# Altium schematic symbol library hand_ad_lib.SchLib: 101 symbols (part 2 of 2)
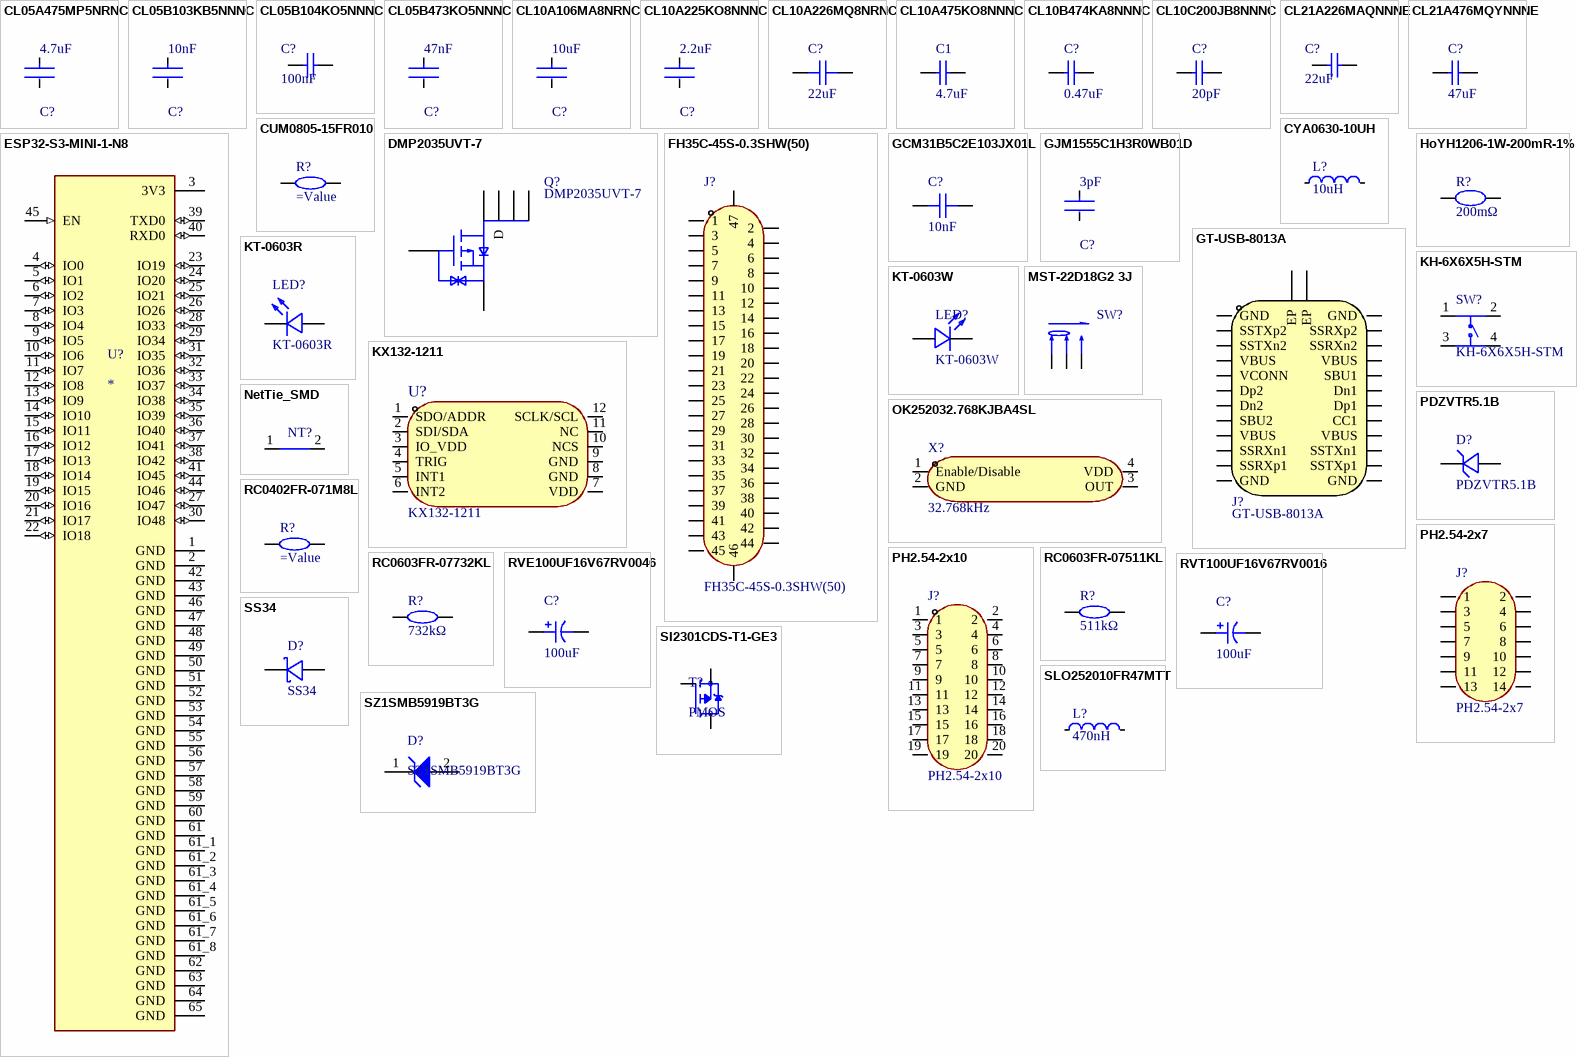
[diagram p3: symbols CL05A475MP5NRNC to SZ1SMB5919BT3G]

## PH2.54-2x7
designator J?
Pin Header 2.54mm, 2x7; Manufacturer: BOOMELE(博穆精密); Symbol: Header-Male-2.54_2x7; Add into BOM: yes; Device: PH2.54-2x7; Supplier: LCSC; Manufacturer Part: PH2.54-2x7; Supplier Part: C71397; JLCPCB Part Class: 扩展库; LCSC Part Name: 间距:2.54mm 直插; Supplier Footprint: 插件,P=2.54mm; Datasheet: https://atta.szlcsc.com/upload/public/pdf/source/20221201/C605E3BE9C0F7226363017EFD1BDE852.pdf; Convert to PCB: yes; Pin Structure: -; Pitch: 2.54mm; Row Spacing: 2.54mm; Circluar Pins/Square Pins: -; Mounting Type: 直插; Number of Rows: 双排; Number of Pins: 14P; Current Rating (Max): -; Voltage Rating (Max): -; Length of Mating Pin: -; Insulation Height: -; Contact Material: -; Contact Plating: -; Color: 黑色; Name: PH2.54-2x7
footprint HDR-TH_14P-P2.54-V-M-R2-C7-S2.54
pins: 1, 2, 3, 4, 5, 6, 7, 8, 9, 10, 11, 12, 13, 14

## PH2.54-2x10
designator J?
Pin Header 2.54mm, 2x10; Manufacturer: ZHOURI(洲日); Add into BOM: yes; Pin Structure: 2x10P; Symbol: PH2.54-2x10; Device: PH2.54-2x10; Supplier: LCSC; Supplier Part: C5116480; Manufacturer Part: PH2.54-2x10; JLCPCB Part Class: Extended Part; LCSC Part Name: PH2.54-2x10; Supplier Footprint: 插件,P=2.54mm; Datasheet: https://atta.szlcsc.com/upload/public/pdf/source/20220412/C6BEA3D643D1CE07163CD717B50927E0.pdf; Convert to PCB: yes; Pitch: 2.54mm; Number of Rows: 双排; Number of Pins: 20P; Name: PH2.54-2x10
footprint HDR-TH_20P-P2.54-V-M-R2-C10-S2.54
pins: 1, 2, 3, 4, 5, 6, 7, 8, 9, 10, 11, 12, 13, 14, 15, 16, 17, 18, 19, 20

## RC0402FR-071M8L
designator R?
SMD Chip Resistor, 1.8 MOhm, ± 1%, 63 mW, 0402 [1005 Metric], Thick Film, General Purpose; Manufacturer: YAGEO(国巨); Symbol: RC0402FR-071M8L; Add into BOM: yes; Value: 1.8MΩ; Power(Watts): 62.5mW; Overload Voltage (Max): 50V; Temperature Coefficient: ±100ppm/℃; Device: RC0402FR-071M8L; LCSC Part Name: 厚膜电阻 1.8MΩ ±1% 62.5mW; Supplier Part: C185447; Manufacturer Part: RC0402FR-071M8L; Supplier Footprint: 0402; JLCPCB Part Class: Extended Part; Datasheet: https://atta.szlcsc.com/upload/public/pdf/source/20180904/C276339_014E484F1DBA106FB92D45EABD5A1AC1.pdf; Supplier: LCSC; Convert to PCB: yes; Type: Thick Film; Tolerance: ±1%; Operating Temperature Range: -55℃~+155℃; Resistance: 1.8MΩ; Name: =Value
footprint R0402
pins: 1, 2

## RC0603FR-07511KL
designator R?, comment 511kΩ
Resistor, Res Thick Film 0402 511k Ohm 1% 0.1W(1/10W) ±100ppm/°C Pad SMD T/R; Manufacturer: YAGEO(国巨); Symbol: RC0603FR-07511KL; Add into BOM: yes; Power(Watts): 100mW; Overload Voltage (Max): 75V; Temperature Coefficient: ±100ppm/℃; Device: RC0603FR-07511KL; LCSC Part Name: 厚膜电阻 511kΩ ±1% 100mW; Supplier Part: C188257; Manufacturer Part: RC0603FR-07511KL; Supplier Footprint: 0603; JLCPCB Part Class: 扩展库; Datasheet: https://atta.szlcsc.com/upload/public/pdf/source/20180316/70C0E2BDAE7FCC62C531A5A58D202EE1.pdf; Supplier: LCSC; Convert to PCB: yes; Type: 厚膜电阻; Value: 511kΩ; Tolerance: ±1%; Operating Temperature Range: -55℃~+155℃; Name: 511kΩ
footprint R0603
pins: 1, 2

## RC0603FR-07732KL
designator R?, comment 732kΩ
RES SMD 732K OHM 1% 1/10W 0603; Manufacturer: YAGEO(国巨); Symbol: RC0603FR-07732KL; Add into BOM: yes; Power(Watts): 100mW; Overload Voltage (Max): 75V; Temperature Coefficient: ±100ppm/℃; Device: RC0603FR-07732KL; LCSC Part Name: 厚膜电阻 732kΩ ±1% 100mW; Supplier Part: C246003; Manufacturer Part: RC0603FR-07732KL; Supplier Footprint: 0603; JLCPCB Part Class: 扩展库; Datasheet: https://atta.szlcsc.com/upload/public/pdf/source/20181031/C326976_E9901E35333D136A19B6CE377E889A82.pdf; Supplier: LCSC; Convert to PCB: yes; Type: 厚膜电阻; Value: 732kΩ; Tolerance: ±1%; Operating Temperature Range: -55℃~+155℃; Name: 732kΩ
footprint R0603
pins: 1, 2

## RVE100UF16V67RV0046
designator C?, comment 100uF
100uF 16V SMD, D6.3xL5.4mm Aluminum Electrolytic Capacitors - SMD ROHS; Manufacturer: KNSCHA(科尼盛); Symbol: RVE100UF16V67RV0046; Add into BOM: yes; Tolerance: ±20%; Ripple Current: 170mA@120Hz; Equivalent Series Resistance(ESR): 850mΩ@100kHz; φD: 6.3mm; L: 5.4mm; Lifetime @ Temp: 2000hrs@105℃; Device: RVE100UF16V67RV0046; Supplier: LCSC; Supplier Part: C2904878; Manufacturer Part: RVE100UF16V67RV0046; Value: 100uF; JLCPCB Part Class: 扩展库; LCSC Part Name: 100uF ±20% 16V; Supplier Footprint: SMD,D6.3xL5.4mm; Datasheet: https://atta.szlcsc.com/upload/public/pdf/source/20211014/E793867481A07AC3B19BA2A562D53862.pdf; Convert to PCB: yes; Rated Voltage: 16V; Operating Temperature: -55℃~+105℃; Name: 100uF
footprint CAP-SMD_BD6.3-L6.6-W6.6-LS7.2-FD
pins: 1, 2

## RVT100UF16V67RV0016
designator C?, comment 100uF
2000hrs@105℃ 100uF 16V SMD, D6.3xL5.4mm Aluminum Electrolytic Capacitors - SMD ROHS; Manufacturer: KNSCHA(科尼盛); Symbol: RVT100UF16V67RV0016; Add into BOM: yes; Tolerance: ±20%; Ripple Current: 93mA@120Hz; φD: 6.3mm; L: 5.4mm; Device: RVT100UF16V67RV0016; Supplier: LCSC; Supplier Part: C2887276; Manufacturer Part: RVT100UF16V67RV0016; Value: 100uF; JLCPCB Part Class: Extended Part; LCSC Part Name: 100uF ±20% 16V; Supplier Footprint: SMD,D6.3xL5.4mm; Datasheet: https://atta.szlcsc.com/upload/public/pdf/source/20210824/B97D2C1FD85DB1F31706138D89C4BE44.pdf; Convert to PCB: yes; Rated Voltage: 16V; Equivalent Series Resistance(ESR): -; Lifetime @ Temp: 2000hrs@105℃; Operating Temperature: -55℃~+105℃; Name: 100uF
footprint CAP-SMD_BD6.3-L6.6-W6.6-LS7.2-FD
pins: 1, 2

## SI2301CDS-T1-GE3
designator T?, comment PMOS
P-Channel 20 V 3.1A (Tc) 860mW (Ta), 1.6W (Tc) Surface Mount SOT-23-3 (TO-236); MF: Vishay; MP: SI2301CDS-T1-GE3; Package: SOT-23-3 Vishay Siliconix; Price: None; Check_prices: https://www.snapeda.com/parts/SI2301CDS-T1-GE3/Vishay+Siliconix/view-part/?ref=eda; Value: *; SnapEDA_Link: https://www.snapeda.com/parts/SI2301CDS-T1-GE3/Vishay+Siliconix/view-part/?ref=snap; Availability: In Stock; Purchase-URL: https://pricing.snapeda.com/search?q=SI2301CDS-T1-GE3&ref=eda
footprint SOT-23
pins: 1 G, 2 S, 3 D

## SLO252010FR47MTT
designator L?, comment 470nH
Inductance: 470nH, Maximum DC Resistance (DCR): 33mΩ, Tolerance: ±20%, Rated Current: 3.6A, Saturation Current: 4.9A.; Manufacturer: Sunltech(韩国顺磁); Symbol: SLO252010FR47MTT; Add into BOM: yes; Device: SLO252010FR47MTT; Supplier: LCSC; Supplier Part: C275664; Manufacturer Part: SLO252010FR47MTT; Value: 470nH; JLCPCB Part Class: 扩展库; LCSC Part Name: 470nH ±20%; Supplier Footprint: 1008; Datasheet: https://atta.szlcsc.com/upload/public/pdf/source/20180827/C275675_14A9C48955D3808CE02CC0CFD834A432.pdf; Convert to PCB: yes; Tolerance: ±20%; Rated Current: 3.6A; DC Resistance (DCR): 33mΩ; Name: 470nH
footprint IND-SMD_L2.5-W2.0_YXMBL252010P
pins: 1, 2

## SS34
designator D?
Rectifier Diode, Schottky, 1 Phase, 1 Element, 3A, 40V V(RRM), Silicon, DO-214AC; Manufacturer: MDD; Symbol: SS34_C8678; Add into BOM: yes; Diode Configuration: 独立式; Forward Voltage (Vf@If): 550mV@3A; Reverse Leakage Current (Ir): 500uA@40V; Device: SS34_C8678; Supplier: LCSC; Manufacturer Part: SS34; Supplier Part: C8678; JLCPCB Part Class: 基础库; LCSC Part Name: 电压:40V 电流:3A; Supplier Footprint: SMA(DO-214AC); Datasheet: https://atta.szlcsc.com/upload/public/pdf/source/20230314/A80AE34493C69B89E2F4B1712F433538.pdf; Convert to PCB: yes; Reverse Voltage (Vr): 40V; Average Rectified Current (Io): 3A; Name: SS34
footprint SMA_L4.3-W2.6-LS5.2-RD
pins: 1 K, 2 A

## SZ1SMB5919BT3G
designator D?
3 W Zener Voltage Regulator, 2-Pin SMB, Pb-Free, Tape and Reel; Manufacturer: On Semiconductor; VZ Typ (V): 5.6; RoHS: Pb-Free; ComponentLink1URL: http://www.onsemi.com/; PackageReference: SMB-2-403A-03_H; ComponentLink2Description: Datasheet; ComponentLink3Description: Package Specification; PackageDescription: 2-Pin Small Molded Package, J-Bend Lead, Body 4.33 x 3.625 mm; DatasheetVersion: Rev. 8; ComponentLink1Description: Manufacturer URL; PartNumber: SZ1SMB5919BT3G; ComponentLink3URL: http://www.onsemi.com/pub_link/Collateral/1SMB5913BT3-D.PDF; Packing: Tape and Reel; Mounting Technology: Surface Mount; ComponentLink2URL: http://www.onsemi.com/pub_link/Collateral/1SMB5913BT3-D.PDF; PackageVersion: Rev. H, 05/2011
footprint ONSC-SMB-2-403A-03_H_V (Molded, 2-Leads, Body 4.6x3.95mm)
pins: 1 K, 2 A

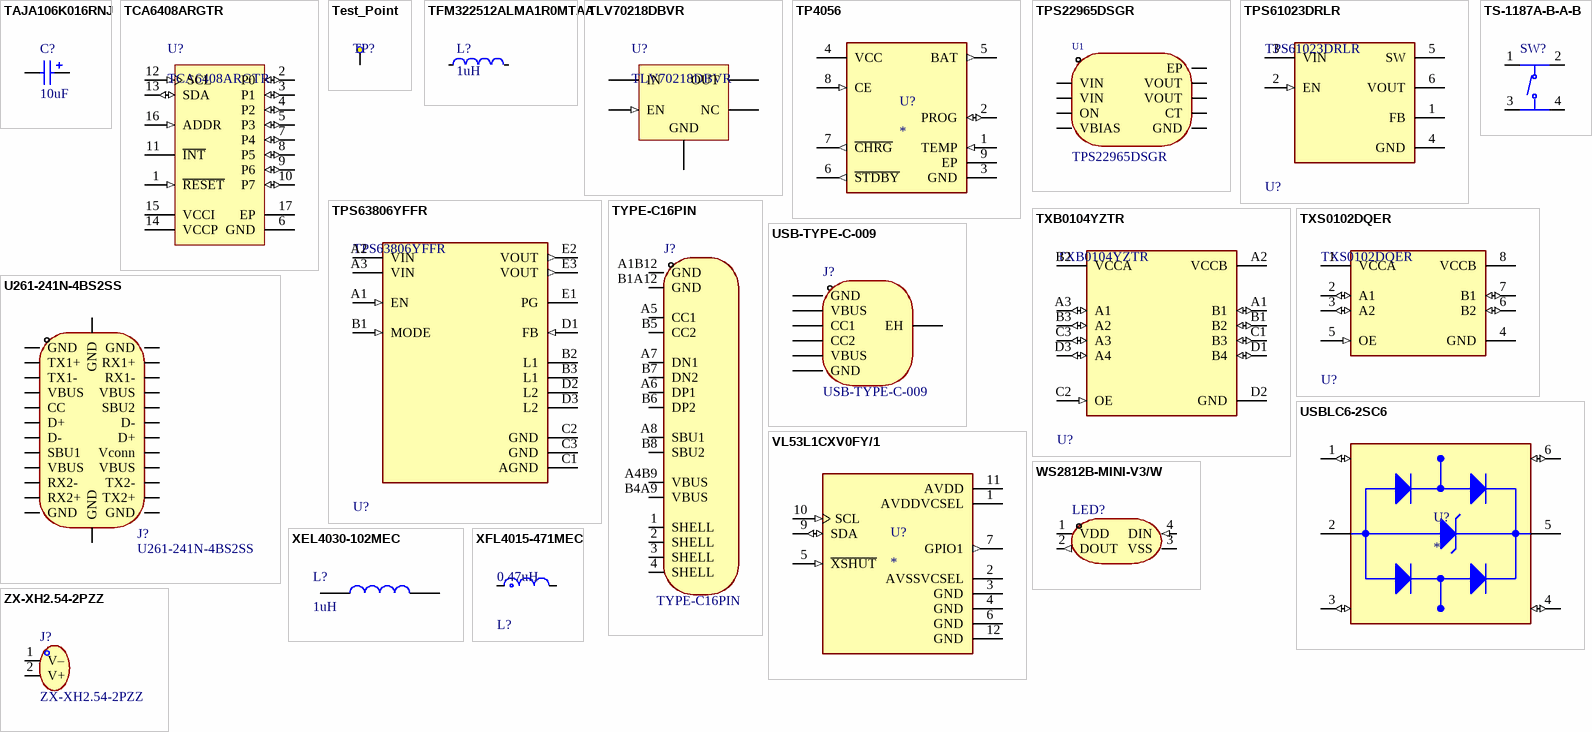
[diagram p2: symbols TAJA106K016RNJ to ZX-XH2.54-2PZZ]

## TAJA106K016RNJ
designator C?, comment 10uF
10 uF Tantalum Capacitor, Operating Temperature: -55°C to +125°C, ESR: 3Ω @ 100kHz, Tolerance: ±10%, Rated Voltage: 16V.; Manufacturer: Kyocera AVX; Symbol: TAJA106K016RNJ; Add into BOM: yes; Rated Voltage: 16V; Device: TAJA106K016RNJ; LCSC Part Name: 10uF ±10% 16V; Supplier Part: C7171; Manufacturer Part: TAJA106K016RNJ; Supplier Footprint: CASE-A-3216; JLCPCB Part Class: 基础库; Datasheet: https://atta.szlcsc.com/upload/public/pdf/source/20160107/1457707750344.pdf; Supplier: LCSC; Convert to PCB: yes; Value: 10uF; Tolerance: ±10%; Equivalent Series Resistance(ESR): 3Ω@100kHz; Operating Temperature: -55℃~+125℃; Name: 10uF
footprint CAP-SMD_L3.2-W1.6-RD-C7171
pins: 1, 2

## TCA6408ARGTR
designator U?
Low-Voltage 8-Bit I2C and SMBus I/O Expander, 1.65 to 5.5 V, -40 to 85 degC, 16-pin QFN (RGT), Green (RoHS & no Sb/Br); Manufacturer: Texas Instruments; Max Frequency(kHz): 400; Low Power: Yes; I2C Address: 0100 00x; # of I/Os: 8; VCC(Max)(V): 5.5; SubFamily: I2C IO Expander; VCC(Min)(V): 1.65; fSCLK(Max)(MHz): 400; ComponentLink2Description: Package Specification; PackageDescription: 16-Pin Plastic Quad Flat No-Lead, 3 x 3 mm Body, 0.5 mm Pitch, 1.45 x 1.45 mm Exposed Pad; Code_JEDEC: MO-220; PackageReference: RGT0016A; Interrupt Output: Yes; PartNumber: TCA6408ARGTR; No. of Outputs: 8; ComponentLink2URL: http://www.ti.com/litv/pdf/mpds361; Push-Pull I/O Type: Yes; Reset Input: Yes; DatasheetVersion: SCPS192C; ComponentLink1Description: Datasheet; Eco-Plan: Green (RoHS & no Sb/Br); 5V Tolerant I/O: Yes; PackageVersion: revH, Oct-2011; Mounting Technology: Surface Mount; Vcc range(V): 1.65 to 5.5; ComponentLink1URL: http://www.ti.com/general/docs/lit/getliterature.tsp?genericPartNumber=TCA6408A&fileType=pdf; Configuration Registers: Yes
footprint RGT0016A_V (QFN, 16-Leads, Body 3x3mm, Pitch 0.5mm, Thermal Pad 1.45x1.45mm)
pins: 1 ~{RESET} (in) "Active-low reset input. Connect to VCC  through a pullup resistor, if no active connection is used.", 2 P0 (io) "P-port input/output. (Push-pull design structure.) At power on, P0 is configured as an input.", 3 P1 (io) "P-port input/output. (Push-pull design structure.) At power on, P1 is configured as an input.", 4 P2 (io) "P-port input/output. (Push-pull design structure.) At power on, P2 is configured as an input.", 5 P3 (io) "P-port input/output. (Push-pull design structure.) At power on, P3 is configured as an input.", 6 GND (power) "Ground", 7 P4 (io) "P-port input/output. (Push-pull design structure.) At power on, P4 is configured as an input.", 8 P5 (io) "P-port input/output. (Push-pull design structure.) At power on, P5 is configured as an input.", 9 P6 (io) "P-port input/output. (Push-pull design structure.) At power on, P6 is configured as an input.", 10 P7 (io) "P-port input/output. (Push-pull design structure.) At power on, P7 is configured as an input.", 11 ~{INT} (oc) "Interrupt output. Connect to VCCI through a pullup resistor.", 12 SCL (in) "Serial clock bus. Connect to VCCI through a pullup resistor.", 13 SDA (io) "Serial data bus. Connect to VCCI through a pullup resistor.", 14 VCCP (power) "Supply voltage of TCA6408A for P port", 15 VCCI (power) "Supply voltage of I2C bus. Connect directly to the VCCI of the external I2C master. Provides voltage leveltranslation", 16 ADDR (in) "Address input. Connect directly to VCCI or ground", 17 EP "Exposed thermal pad"

## Test_Point
designator TP?, comment Test point  (value not drawn)
Value: Test point
footprint Test_Point (Test Point)
pins: TP? Test point

## TFM322512ALMA1R0MTAA
designator L?, comment 1uH
Inductor Power Shielded Thin Film 1uH 20% 1MHz Metal 4A 0.037Ohm DCR 1210 Automotive T/R; Manufacturer: TDK; Symbol: TFM322512ALMA1R0MTAA; Add into BOM: yes; Device: TFM322512ALMA1R0MTAA; LCSC Part Name: 1uH ±20%; Supplier Part: C5289686; Manufacturer Part: TFM322512ALMA1R0MTAA; Supplier Footprint: SMD,3.2x2.5mm; JLCPCB Part Class: 扩展库; Datasheet: https://atta.szlcsc.com/upload/public/pdf/source/20211126/E72FBF4739559F3406CBBE217E68C1F7.pdf; Supplier: LCSC; Convert to PCB: yes; Value: 1uH; Tolerance: ±20%; Name: 1uH
footprint IND-SMD_L3.2-W2.5_TDK_TFM322512ALVA
pins: 1, 2

## TLV70218DBVR
designator U?
300-mA, high-PSRR, low-IQ, low-dropout voltage regulator with enable 5-SOT-23 -40 to 125; Quiescent Current: 30uA; Accuracy: 2%; Dropout Voltage: 260mV; Output Voltage Accuracy: 0.5%; Max Input Voltage: 5.5V; Max Output Current: 300mA; Power Dissipation: 500mW; Number of Regulators: 1; Min Output Voltage: 1.8V; Min Input Voltage: 2V; Min Current Limit: 320mA; Polarity: Positive; Output Type: Fixed; Package Quantity: 3000; Packaging: Tape and Reel; Contact Plating: Gold; RoHS Compliant: Yes; Min Operating Temperature: -40°C; Number of Outputs: 1; REACH SVHC: No SVHC; Lead Free: Lead Free; Max Operating Temperature: 125°C; Series: -; Case/Package: SOT-23-5; Radiation Hardening: No; Nominal Output Voltage: 1.8V; Number of Pins: 5; Max Output Voltage: 1.8V; Output Current: 300mA; Max Power Dissipation: 500mW; Output Voltage: 1.8V
footprint DBV0005A_M (SOT23, 5-Leads, Body 3.05x1.75mm, Pitch 0.95mm, IPC Low Density)
footprint DBV0005A_L (SOT23, 5-Leads, Body 3.05x1.75mm, Pitch 0.95mm, IPC High Density)
footprint DBV0005A_N (SOT23, 5-Leads, Body 3.05x1.75mm, Pitch 0.95mm, IPC Medium Density)
pins: 1 IN (power) "Input supply voltage", 2 GND (power) "Ground", 3 EN (in) "Enable input", 4 NC "No connected", 5 OUT (power) "Regulated output voltage"

## TP4056
designator U?
Complete single cell Li-Ion battery with a constant current / constant voltage linear charger; MF: NanJing Top Power ASIC Corp.; MP: TP4056; Check_prices: https://www.snapeda.com/parts/TP4056/NanJing+Top+Power+ASIC+Corp./view-part/?ref=eda; SnapEDA_Link: https://www.snapeda.com/parts/TP4056/NanJing+Top+Power+ASIC+Corp./view-part/?ref=snap; Price: None; Availability: Not in stock; Package: Package; Value: *
footprint SOP127P600X175-9N
pins: 1 TEMP (in), 2 PROG (io), 3 GND (power), 4 VCC (power), 5 BAT (out), 6 ~{STDBY} (out), 7 ~{CHRG} (out), 8 CE (in), 9 EP

## TPS22965DSGR
designator U1
Tape & Reel (TR) TPS22965 e4 On/Off power distribution switch 2mm 2.5V 2.2ms 6A; Manufacturer: TI(德州仪器); Add into BOM: yes; Symbol: TPS22965DSGR; Device: TPS22965DSGR; Supplier: LCSC; Manufacturer Part: TPS22965DSGR; Supplier Part: C122837; JLCPCB Part Class: 扩展库; LCSC Part Name: TPS22965DSGR; Supplier Footprint: UDFN-8-EP(2x2); Datasheet: https://www.ti.com/cn/lit/gpn/tps22965; Convert to PCB: yes; Name: TPS22965DSGR
footprint UDFN-8_L2.0-W2.0-P0.50-TL-EP
pins: 1 VIN, 2 VIN, 3 ON, 4 VBIAS, 5 GND, 6 CT, 7 VOUT, 8 VOUT, 9 EP

## TPS61023DRLR
designator U?
3.7-A boost converter with 0.5-V ultra-low input voltage 6-SOT-5X3 -40 to 125
footprint FP-DRL0006A-MFG
pins: 1 FB, 2 EN (in), 3 VIN (power), 4 GND (power), 5 SW, 6 VOUT (power)

## TPS63806YFFR
designator U?
Low IQ Buck-Boost Converter with Small Solution Size 2A 1.3V to 5.5V 15-Pin DSBGA
footprint FP-YFF0015-MFG
footprint FP-YFF0015-IPC_A
footprint FP-YFF0015-IPC_B
footprint FP-YFF0015-IPC_C
pins: A1 EN (in), A2 VIN (power), A3 VIN (power), B1 MODE (in), B2 L1, B3 L1, C1 AGND (power), C2 GND (power), C3 GND (power), D1 FB (in), D2 L2, D3 L2, E1 PG (oc), E2 VOUT (out), E3 VOUT (out)

## TS-1187A-B-A-B
designator SW?  (value not drawn)
Touch Button; Manufacturer: XKB Connectivity(中国星坤); Add into BOM: yes; Circuit: 单刀单掷; Actuator Style: 圆形按钮; Operating Force: 160gf; Switch Length: 5.1mm; Switch Height: 1.5mm; Strike Gundam: 不带; Contact Current: 50mA; Voltage Rating (DC): 12V; Actuator/Cap Color: 金色; With Lamp: 无; Mechanical Life: 10万次; Symbol: TS-1187A-B-A-B; Device: TS-1187A-B-A-B; Supplier: LCSC; Supplier Part: C318884; Manufacturer Part: TS-1187A-B-A-B; JLCPCB Part Class: 基础库; LCSC Part Name: 5.1*5.1*1.5mm 立贴 轻触开关; Supplier Footprint: SMD; Datasheet: https://atta.szlcsc.com/upload/public/pdf/source/20200227/C318890_053E50208A88A7BA1965D8746000774E.pdf; Convert to PCB: yes; Mounting Style: 立贴; Switch Width: 5.1mm; Insulation Resistance: -; Operating Temperature: -30℃~+85℃; Name: TS-1187A-B-A-B
footprint SW-SMD_4P-L5.1-W5.1-P3.70-LS6.5-TL-2
pins: 1 A, 2 B, 3 C, 4 D

## TXB0104YZTR
designator U?
I2C Level Shifter 4 channel, IC TRNSLTR BIDIRECTIONAL 12DSBGA; Output Type: 3-STATE; High Level Output Current: -20uA; Low Level Output Current: 20uA; Max Supply Voltage: 5.5V; Number of Bits: 4; Min Supply Voltage: 1.2V; Logic Function: Translator; Propagation Delay: 31ns; Data Rate: 100Mbps; Quiescent Current: 3.5uA; Turn-On Delay Time: 7.4ns; Series: -; Contact Plating: Copper; Packaging: Tape and Reel; Case/Package: BGA; Min Operating Temperature: -40°C; Package Quantity: 1; Max Operating Temperature: 85°C; RoHS Compliant: Yes; Radiation Hardening: No; Mount: Surface Mount; REACH SVHC: No SVHC; Number of Channels: 4; Lead Free: Lead Free; Number of Pins: 12
footprint FP-YZT0012-IPC_B
footprint FP-YZT0012-IPC_A
footprint FP-YZT0012-IPC_C
pins: A1 B1 (io), A2 VCCB (power), A3 A1 (io), B1 B2 (io), B2 VCCA (power), B3 A2 (io), C1 B3 (io), C2 OE (in), C3 A3 (io), D1 B4 (io), D2 GND (power), D3 A4 (io)

## TXS0102DQER
designator U?
2-Bit Bidirectional Voltage-Level Shifter for Open-Drain and Push-Pull Application 8-X2SON -40 to 85; Manufacturer: Texas Instruments; Min Supply Voltage: 1.65V; Number Of Outputs: 2; Propagation Delay: 28ns; Number Of Circuits: 1; V A Min: 1.25V; V A Max: 3.6V; Standoff Height: 0mm; V B Min: 2.3V; Max Supply Voltage: 5.5V; Max Junction Temp: +150°C; Logic Function Desc: Non-Inverting; Data Rate: 24Mbits/s; Nominal Supply Current: 14.4uA; Device Class L1: Integrated Circuits (ICs); Temperature Range Low: -40°C; Ipc Land Pattern Name: DFN140X100X37-8; RoHS: TRUE; Package: DQE0008A; Automotive: No; Digikey Description: IC TRNSLTR BIDIRECTIONAL 8X2SON; Device Class L3: Voltage Level Shifters; Octopart: https://octopart.com/txs0102dqer-texas+instruments-19973770; ComponentLink2URL: http://www.ti.com/lit/ds/symlink/txs0102.pdf; Number Of Inputs: 2; Height: 0.4mm; ComponentLink2Description: Datasheet; Ambient Temperature Range Low: -40°C; Ambient Temperature Range High: +85°C; Temperature Range High: +85°C; Mouser Description: Translation - Voltage Levels 2B Bidirec Vltg-Lev Translator; Temperature: -40°C to +85°C; Lead Free: Yes; Device Class L2: Logic ICs; Category: IC; Manufacturer Part Number: TXS0102DQER; V B Max: 5.5V
footprint FP-DQE0008A-IPC_C
footprint FP-DQE0008A-MFG
footprint FP-DQE0008A-IPC_B
footprint FP-DQE0008A-IPC_A
pins: 1 VCCA (power), 2 A1 (io), 3 A2 (io), 4 GND (power), 5 OE (in), 6 B2 (io), 7 B1 (io), 8 VCCB (power)

## TYPE-C16PIN
designator J?
USB Type-C 16 pins connector; Manufacturer: SHOU HAN(首韩); Add into BOM: yes; Gender: 母; Number of Ports: 1; Number of Contacts: 16P; Current Rating - Power (Max): 3A; Symbol: TYPE-C16PIN; Device: TYPE-C16PIN; Supplier: LCSC; Supplier Part: C393939; Manufacturer Part: TYPE-C16PIN; JLCPCB Part Class: Extended Part; LCSC Part Name: Type-C 母 卧贴; Supplier Footprint: SMD; Datasheet: https://atta.szlcsc.com/upload/public/pdf/source/20190521/C393939_7B9043D4CF1026AF443AB60D91FBCD5C.pdf; Convert to PCB: yes; Connector Type: Type-C; Standard: -; Mounting Style: 卧贴; Operating Temperature Range: -40℃~+85℃; Name: TYPE-C16PIN
footprint USB-C-SMD_TYPE-C16PIN
pins: 1 SHELL, 2 SHELL, 3 SHELL, 4 SHELL, A1B12 GND (power), A4B9 VBUS, A5 CC1, A6 DP1 (io), A7 DN1 (io), A8 SBU1, B1A12 GND (power), B4A9 VBUS, B5 CC2, B6 DP2 (io), B7 DN2 (io), B8 SBU2

## U261-241N-4BS2SS
designator J?
Type-C male connector, board mount, temperature range -40°C to +85°C, USB 3.1, high conductivity copper, contact plating: gold, 24 pins, 5A.; Manufacturer: XKB Connectivity(中国星坤); Add into BOM: yes; Gender: 公; Number of Ports: 1; Number of Contacts: 24P; Current Rating - Power (Max): 5A; Soldering Temperature(Max): 260℃; Symbol: U261-241N-4BS2SS; Device: U261-241N-4BS2SS; LCSC Part Name: Type-C 公 沉板; Supplier Part: C2938596; Manufacturer Part: U261-241N-4BS2SS; Supplier Footprint: SMD; JLCPCB Part Class: 扩展库; Datasheet: https://atta.szlcsc.com/upload/public/pdf/source/20211229/8816670D37F7BADECA999C720C1B1E92.pdf; Supplier: LCSC; Convert to PCB: yes; Connector Type: Type-C; Standard: USB 3.1; Mounting Style: 沉板; Contact Material: 高导铜; Contact Plating: 金; Operating Temperature Range: -40℃~+85℃; Name: U261-241N-4BS2SS
footprint USB-C-SMD_U261-241N-4BS2SS
pins: 25 GND, 26 GND, A1 GND, A2 TX1+, A3 TX1-, A4 VBUS, A5 CC, A6 D+, A7 D-, A8 SBU1, A9 VBUS, A10 RX2-, A11 RX2+, A12 GND, B1 GND, B2 TX2+, B3 TX2-, B4 VBUS, B5 Vconn, B6 D+, B7 D-, B8 SBU2, B9 VBUS, B10 RX1-, B11 RX1+, B12 GND

## USB-TYPE-C-009
designator J?
Female 6 pin type-C connector; Manufacturer: DEALON(德艺隆); Add into BOM: yes; Gender: 母; Number of Ports: 1; Number of Contacts: 6P; Current Rating - Power (Max): 5A; Symbol: USB-TYPE-C-009; Device: USB-TYPE-C-009; LCSC Part Name: Type-C 母 卧贴; Supplier Part: C2927029; Manufacturer Part: USB-TYPE-C-009; Supplier Footprint: SMD; JLCPCB Part Class: 扩展库; Datasheet: https://atta.szlcsc.com/upload/public/pdf/source/20211217/1285E39CB33F6A7DB557CB6D0A3C6F17.pdf; Supplier: LCSC; Convert to PCB: yes; Connector Type: Type-C; Standard: -; Mounting Style: 卧贴; Operating Temperature Range: -25℃~+85℃; Name: USB-TYPE-C-009
footprint TYPE-C-SMD_TYPE-C-6P
pins: 7 EH, A5 CC1, A9 VBUS, A12 GND, B5 CC2, B9 VBUS, B12 GND

## USBLC6-2SC6
designator U?
17V Clamp 5A (8/20Âµs) Ipp Tvs Diode Surface Mount SOT-23-6; MF: STMicroelectronics; MP: USBLC6-2SC6; Value: *; SnapEDA_Link: https://www.snapeda.com/parts/USBLC6-2SC6/STMicroelectronics/view-part/?ref=snap; Check_prices: https://www.snapeda.com/parts/USBLC6-2SC6/STMicroelectronics/view-part/?ref=eda; Purchase-URL: https://pricing.snapeda.com/search/part/USBLC6-2SC6/?ref=eda; Price: None; Availability: In Stock; Package: SOT-23-6 STMicroelectronics
footprint SOT95P280X145-6N
pins: 1 I/O1_IN (io), 2 GND (power), 3 I/O2_IN (io), 4 I/O2_OUT (io), 5 VBUS (power), 6 I/O1_OUT (io)

## VL53L1CXV0FY/1
designator U?
Optical Sensor 157.480 (4m) I2C Output; MP: VL53L1CXV0FY/1; MF: STMicroelectronics; SnapEDA_Link: https://www.snapeda.com/parts/VL53L1CXV0FY/1/STMicroelectronics/view-part/?ref=snap; Package: LGA-12 STMicroelectronics; Check_prices: https://www.snapeda.com/parts/VL53L1CXV0FY/1/STMicroelectronics/view-part/?ref=eda; Purchase-URL: https://pricing.snapeda.com/search/part/VL53L1CXV0FY/1/?ref=eda; Price: None; Value: *; Availability: In Stock
footprint SENSOR_VL53L1CXV0FY/1
pins: 1 AVDDVCSEL (power), 2 AVSSVCSEL (power), 3 GND (power), 4 GND (power), 5 ~{XSHUT} (in), 6 GND (power), 7 GPIO1 (out), 9 SDA (io), 10 SCL (in), 11 AVDD (power), 12 GND (power)

## WS2812B-MINI-V3/W
designator LED?  (value not drawn)
Main wavelength: 472nm, Main wavelength: 518nm, Main wavelength: 622nm, Emission color: RGB (Red, Green, Blue), Forward voltage (VF): 5V, Forward current: 12mA; Manufacturer: worldsemi; Add into BOM: yes; Emitted Color: RGB三色; Dominant Wavelength: 472nm；518nm；622nm; Symbol: WS2812B-MINI; Device: WS2812B-MINI-V3/W; LCSC Part Name: RGB三色; Supplier Part: C527089; Manufacturer Part: WS2812B-MINI-V3/W; Supplier Footprint: SMD3535; JLCPCB Part Class: 扩展库; Datasheet: https://atta.szlcsc.com/upload/public/pdf/source/20190620/C114583_ECCAEB884D1CBA01F5696FFC90F90D84.pdf; Supplier: LCSC; Convert to PCB: yes; Power Dissipation: -; Forward Current: 12mA; Peak Wavelength: -; Diode Configuration: -; Lens Color: -; Color Temperature: -; Viewing Angle: -; Mounting Sytle: -; Operating Temperature: -; Name: WS2812B-MINI-V3/W
footprint LED-SMD_4P-L3.5-W3.5-TL_WS2812B
pins: 1 VDD (power), 2 DOUT (out), 3 VSS (power), 4 DIN (in)

## XEL4030-102MEC
designator L?, comment 1uH
Power inductor, shielded, 20% tol, SMT, RoHS, halogen-free; Manufacturer_Name: COILCRAFT; Manufacturer_Part_Number: XEL4030-102MEC; Datasheet Link: https://www.coilcraft.com/pdfs/xel4030.pdf; Height: 3.2mm; Mouser Part Number: 994-XEL4030-102MEC; Mouser Price/Stock: https://www.mouser.co.uk/ProductDetail/Coilcraft/XEL4030-102MEC?qs=chTDxNqvsynxP6L4IWrGOQ%3D%3D; Value: 1uH
footprint XEL4030101MED
pins: 1, 2

## XFL4015-471MEC
designator L?, comment 0.47uH
Shielded Power Fixed Inductor 0.47µH 11.2A 8.36mOhm AECQ2, SFR 89MHz; DC Resistance (DCR): 8.36mR; Inductance: 470nH; Test Frequency: 100kHz; Tolerance: 20%; Core Material: Composite; Width: 4.3mm; Shielding: Shielded; Length: 4.3mm; Max DC Current: 11.2A; Series: XFL4015; RoHS Compliant: Yes; Min Operating Temperature: -40°C; Packaging: Tape and Reel; Self Resonant Frequency: 89MHz; Termination: SMD/SMT; Max Operating Temperature: 125°C; Height: 1.6mm; Package Quantity: 1000; Lead Free: Contains Lead
footprint FP-XFL4015-MFG
pins: 1, 2

## ZX-XH2.54-2PZZ
designator J?
XH-2.54 2 Pin, through hole; Manufacturer: Megastar(兆星); Add into BOM: yes; Pins Structure: 1x2P; Pitch: 2.54mm; Reference Series: XH; Number of PINs Per Row: 2; Current Rating (Max): 3A; Symbol: ZX-XH2.54-2PZZ; Device: ZX-XH2.54-2PZZ; Supplier: LCSC; Supplier Part: C7429632; Manufacturer Part: ZX-XH2.54-2PZZ; JLCPCB Part Class: 扩展库; LCSC Part Name: ZX-XH2.54-2PZZ; Supplier Footprint: 插件,P=2.54mm; Datasheet: https://atta.szlcsc.com/upload/public/pdf/source/20230619/19BA6947230AA44A04D3EDD65E618FD0.pdf; Convert to PCB: yes; Mounting Style: 直插; Number of Pins: 2P; Number of Rows: 1; Row Spacing: -; Contact Material: 黄铜; Contact Plating: 锡; Operating Temperature Range: -25℃~+85℃; Name: ZX-XH2.54-2PZZ
footprint CONN-TH_2P-P2.50_HX25003-2A
pins: 1 V–, 2 V+